# Altium footprint library Gator_Stream.PcbLib: 9 footprints
Each footprint in its own frame and in the unit in brackets; x right, y up, seen from the top. Pads: shape width x height; smd on the part's side, far side on the other; paste and mask are expansions set on the pad; w line width, h text height; cw(c..) or ccw(c..) is an arc to the next point about the centre after c.
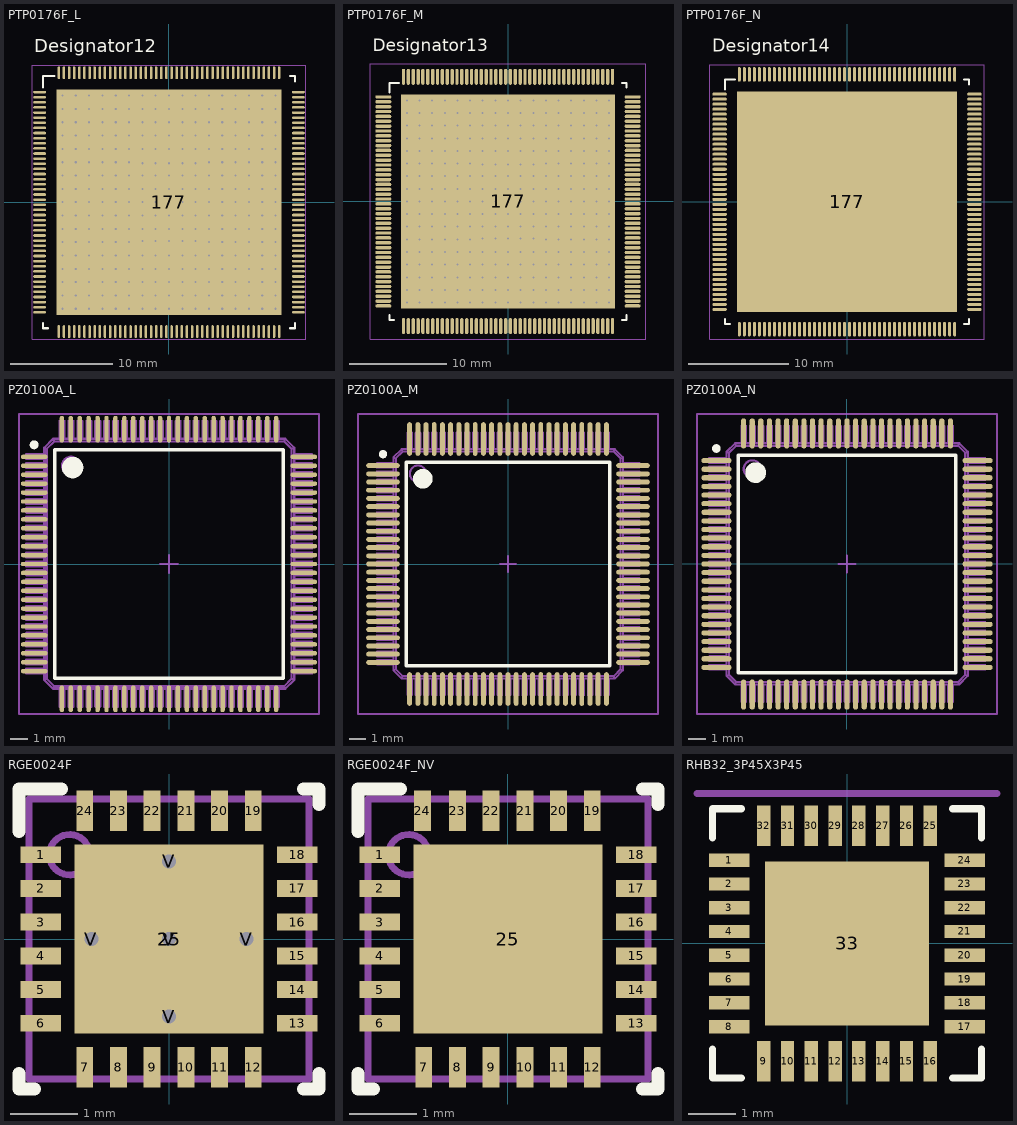
[diagram p0: the footprints below, top view; thin cyan lines are the x and y axes]

## PTP0176F_L [mm]
pads (466):
  oval 1.25x0.25 smd paste+0 mask+0.051: 1(-12.625,10.75) 2(-12.625,10.25) 3(-12.625,9.75) 4(-12.625,9.25) 5(-12.625,8.75) 6(-12.625,8.25) 7(-12.625,7.75) 8(-12.625,7.25) 9(-12.625,6.75) 10(-12.625,6.25) 11(-12.625,5.75) 12(-12.625,5.25) 13(-12.625,4.75) 14(-12.625,4.25) 15(-12.625,3.75) 16(-12.625,3.25) 17(-12.625,2.75) 18(-12.625,2.25) 19(-12.625,1.75) 20(-12.625,1.25) 21(-12.625,0.75) 22(-12.625,0.25) 23(-12.625,-0.25) 24(-12.625,-0.75) 25(-12.625,-1.25) 26(-12.625,-1.75) 27(-12.625,-2.25) 28(-12.625,-2.75) 29(-12.625,-3.25) 30(-12.625,-3.75) 31(-12.625,-4.25) 32(-12.625,-4.75) 33(-12.625,-5.25) 34(-12.625,-5.75) 35(-12.625,-6.25) 36(-12.625,-6.75) 37(-12.625,-7.25) 38(-12.625,-7.75) 39(-12.625,-8.25) 40(-12.625,-8.75) 41(-12.625,-9.25) 42(-12.625,-9.75) 43(-12.625,-10.25) 44(-12.625,-10.75) 89(12.625,-10.75) 90(12.625,-10.25) 91(12.625,-9.75) 92(12.625,-9.25) 93(12.625,-8.75) 94(12.625,-8.25) 95(12.625,-7.75) 96(12.625,-7.25) 97(12.625,-6.75) 98(12.625,-6.25) 99(12.625,-5.75) 100(12.625,-5.25) 101(12.625,-4.75) 102(12.625,-4.25) 103(12.625,-3.75) 104(12.625,-3.25) 105(12.625,-2.75) 106(12.625,-2.25) 107(12.625,-1.75) 108(12.625,-1.25) 109(12.625,-0.75) 110(12.625,-0.25) 111(12.625,0.25) 112(12.625,0.75) 113(12.625,1.25) 114(12.625,1.75) 115(12.625,2.25) 116(12.625,2.75) 117(12.625,3.25) 118(12.625,3.75) 119(12.625,4.25) 120(12.625,4.75) 121(12.625,5.25) 122(12.625,5.75) 123(12.625,6.25) 124(12.625,6.75) 125(12.625,7.25) 126(12.625,7.75) 127(12.625,8.25) 128(12.625,8.75) 129(12.625,9.25) 130(12.625,9.75) 131(12.625,10.25) 132(12.625,10.75)
  oval 0.25x1.25 smd paste+0 mask+0.051: 45(-10.75,-12.625) 46(-10.25,-12.625) 47(-9.75,-12.625) 48(-9.25,-12.625) 49(-8.75,-12.625) 50(-8.25,-12.625) 51(-7.75,-12.625) 52(-7.25,-12.625) 53(-6.75,-12.625) 54(-6.25,-12.625) 55(-5.75,-12.625) 56(-5.25,-12.625) 57(-4.75,-12.625) 58(-4.25,-12.625) 59(-3.75,-12.625) 60(-3.25,-12.625) 61(-2.75,-12.625) 62(-2.25,-12.625) 63(-1.75,-12.625) 64(-1.25,-12.625) 65(-0.75,-12.625) 66(-0.25,-12.625) 67(0.25,-12.625) 68(0.75,-12.625) 69(1.25,-12.625) 70(1.75,-12.625) 71(2.25,-12.625) 72(2.75,-12.625) 73(3.25,-12.625) 74(3.75,-12.625) 75(4.25,-12.625) 76(4.75,-12.625) 77(5.25,-12.625) 78(5.75,-12.625) 79(6.25,-12.625) 80(6.75,-12.625) 81(7.25,-12.625) 82(7.75,-12.625) 83(8.25,-12.625) 84(8.75,-12.625) 85(9.25,-12.625) 86(9.75,-12.625) 87(10.25,-12.625) 88(10.75,-12.625) 133(10.75,12.625) 134(10.25,12.625) 135(9.75,12.625) 136(9.25,12.625) 137(8.75,12.625) 138(8.25,12.625) 139(7.75,12.625) 140(7.25,12.625) 141(6.75,12.625) 142(6.25,12.625) 143(5.75,12.625) 144(5.25,12.625) 145(4.75,12.625) 146(4.25,12.625) 147(3.75,12.625) 148(3.25,12.625) 149(2.75,12.625) 150(2.25,12.625) 151(1.75,12.625) 152(1.25,12.625) 153(0.75,12.625) 154(0.25,12.625) 155(-0.25,12.625) 156(-0.75,12.625) 157(-1.25,12.625) 158(-1.75,12.625) 159(-2.25,12.625) 160(-2.75,12.625) 161(-3.25,12.625) 162(-3.75,12.625) 163(-4.25,12.625) 164(-4.75,12.625) 165(-5.25,12.625) 166(-5.75,12.625) 167(-6.25,12.625) 168(-6.75,12.625) 169(-7.25,12.625) 170(-7.75,12.625) 171(-8.25,12.625) 172(-8.75,12.625) 173(-9.25,12.625) 174(-9.75,12.625) 175(-10.25,12.625) 176(-10.75,12.625)
  rect 22x22 smd paste-10.987 mask+0.051: 177(0,0)
  round 0.5 / inner round 1.524 / far side round 0.5 hole 0.203 mask+0.051: V(-10.4,-10.4) V(-10.4,-9.1) V(-10.4,-7.8) V(-10.4,-6.5) V(-10.4,-5.2) V(-10.4,-3.9) V(-10.4,-2.6) V(-10.4,-1.3) V(-10.4,0) V(-10.4,1.3) V(-10.4,2.6) V(-10.4,3.9) V(-10.4,5.2) V(-10.4,6.5) V(-10.4,7.8) V(-10.4,9.1) V(-10.4,10.4) V(-9.1,-10.4) V(-9.1,-9.1) V(-9.1,-7.8) V(-9.1,-6.5) V(-9.1,-5.2) V(-9.1,-3.9) V(-9.1,-2.6) V(-9.1,-1.3) V(-9.1,0) V(-9.1,1.3) V(-9.1,2.6) V(-9.1,3.9) V(-9.1,5.2) V(-9.1,6.5) V(-9.1,7.8) V(-9.1,9.1) V(-9.1,10.4) V(-7.8,-10.4) V(-7.8,-9.1) V(-7.8,-7.8) V(-7.8,-6.5) V(-7.8,-5.2) V(-7.8,-3.9) V(-7.8,-2.6) V(-7.8,-1.3) V(-7.8,0) V(-7.8,1.3) V(-7.8,2.6) V(-7.8,3.9) V(-7.8,5.2) V(-7.8,6.5) V(-7.8,7.8) V(-7.8,9.1) V(-7.8,10.4) V(-6.5,-10.4) V(-6.5,-9.1) V(-6.5,-7.8) V(-6.5,-6.5) V(-6.5,-5.2) V(-6.5,-3.9) V(-6.5,-2.6) V(-6.5,-1.3) V(-6.5,0) V(-6.5,1.3) V(-6.5,2.6) V(-6.5,3.9) V(-6.5,5.2) V(-6.5,6.5) V(-6.5,7.8) V(-6.5,9.1) V(-6.5,10.4) V(-5.2,-10.4) V(-5.2,-9.1) V(-5.2,-7.8) V(-5.2,-6.5) V(-5.2,-5.2) V(-5.2,-3.9) V(-5.2,-2.6) V(-5.2,-1.3) V(-5.2,0) V(-5.2,1.3) V(-5.2,2.6) V(-5.2,3.9) V(-5.2,5.2) V(-5.2,6.5) V(-5.2,7.8) V(-5.2,9.1) V(-5.2,10.4) V(-3.9,-10.4) V(-3.9,-9.1) V(-3.9,-7.8) V(-3.9,-6.5) V(-3.9,-5.2) V(-3.9,-3.9) V(-3.9,-2.6) V(-3.9,-1.3) V(-3.9,0) V(-3.9,1.3) V(-3.9,2.6) V(-3.9,3.9) V(-3.9,5.2) V(-3.9,6.5) V(-3.9,7.8) V(-3.9,9.1) V(-3.9,10.4) V(-2.6,-10.4) V(-2.6,-9.1) V(-2.6,-7.8) V(-2.6,-6.5) V(-2.6,-5.2) V(-2.6,-3.8) V(-2.6,-2.6) V(-2.6,-1.3) V(-2.6,0) V(-2.6,1.3) V(-2.6,2.6) V(-2.6,3.8) V(-2.6,5.2) V(-2.6,6.5) V(-2.6,7.8) V(-2.6,9.1) V(-2.6,10.4) V(-1.3,-10.4) V(-1.3,-9.1) V(-1.3,-7.8) V(-1.3,-6.5) V(-1.3,-5.2) V(-1.3,-3.8) V(-1.3,-2.6) V(-1.3,-1.3) V(-1.3,0) V(-1.3,1.3) V(-1.3,2.6) V(-1.3,3.8) V(-1.3,5.2) V(-1.3,6.5) V(-1.3,7.8) V(-1.3,9.1) V(-1.3,10.4) V(0,-10.4) V(0,-9.1) V(0,-7.8) V(0,-6.5) V(0,-5.2) V(0,-3.8) V(0,-2.6) V(0,-1.3) V(0,0) V(0,1.3) V(0,2.6) V(0,3.8) V(0,5.2) V(0,6.5) V(0,7.8) V(0,9.1) V(0,10.4) V(1.3,-10.4) V(1.3,-9.1) V(1.3,-7.8) V(1.3,-6.5) V(1.3,-5.2) V(1.3,-3.8) V(1.3,-2.6) V(1.3,-1.3) V(1.3,0) V(1.3,1.3) V(1.3,2.6) V(1.3,3.8) V(1.3,5.2) V(1.3,6.5) V(1.3,7.8) V(1.3,9.1) V(1.3,10.4) V(2.6,-10.4) V(2.6,-9.1) V(2.6,-7.8) V(2.6,-6.5) V(2.6,-5.2) V(2.6,-3.8) V(2.6,-2.6) V(2.6,-1.3) V(2.6,0) V(2.6,1.3) V(2.6,2.6) V(2.6,3.8) V(2.6,5.2) V(2.6,6.5) V(2.6,7.8) V(2.6,9.1) V(2.6,10.4) V(3.9,-10.4) V(3.9,-9.1) V(3.9,-7.8) V(3.9,-6.5) V(3.9,-5.2) V(3.9,-3.9) V(3.9,-2.6) V(3.9,-1.3) V(3.9,0) V(3.9,1.3) V(3.9,2.6) V(3.9,3.9) V(3.9,5.2) V(3.9,6.5) V(3.9,7.8) V(3.9,9.1) V(3.9,10.4) V(5.2,-10.4) V(5.2,-9.1) V(5.2,-7.8) V(5.2,-6.5) V(5.2,-5.2) V(5.2,-3.9) V(5.2,-2.6) V(5.2,-1.3) V(5.2,0) V(5.2,1.3) V(5.2,2.6) V(5.2,3.9) V(5.2,5.2) V(5.2,6.5) V(5.2,7.8) V(5.2,9.1) V(5.2,10.4) V(6.5,-10.4) V(6.5,-9.1) V(6.5,-7.8) V(6.5,-6.5) V(6.5,-5.2) V(6.5,-3.9) V(6.5,-2.6) V(6.5,-1.3) V(6.5,0) V(6.5,1.3) V(6.5,2.6) V(6.5,3.9) V(6.5,5.2) V(6.5,6.5) V(6.5,7.8) V(6.5,9.1) V(6.5,10.4) V(7.8,-10.4) V(7.8,-9.1) V(7.8,-7.8) V(7.8,-6.5) V(7.8,-5.2) V(7.8,-3.9) V(7.8,-2.6) V(7.8,-1.3) V(7.8,0) V(7.8,1.3) V(7.8,2.6) V(7.8,3.9) V(7.8,5.2) V(7.8,6.5) V(7.8,7.8) V(7.8,9.1) V(7.8,10.4) V(9.1,-10.4) V(9.1,-9.1) V(9.1,-7.8) V(9.1,-6.5) V(9.1,-5.2) V(9.1,-3.9) V(9.1,-2.6) V(9.1,-1.3) V(9.1,0) V(9.1,1.3) V(9.1,2.6) V(9.1,3.9) V(9.1,5.2) V(9.1,6.5) V(9.1,7.8) V(9.1,9.1) V(9.1,10.4) V(10.4,-10.4) V(10.4,-9.1) V(10.4,-7.8) V(10.4,-6.5) V(10.4,-5.2) V(10.4,-3.9) V(10.4,-2.6) V(10.4,-1.3) V(10.4,0) V(10.4,1.3) V(10.4,2.6) V(10.4,3.9) V(10.4,5.2) V(10.4,6.5) V(10.4,7.8) V(10.4,9.1) V(10.4,10.4)
Top Overlay:
  lines w0.2: -12.3,-11.8 -12.3,-12.3 -11.8,-12.3 ; -12.3,11.2 -12.3,12.3 -11.2,12.3 ; 11.8,-12.3 12.3,-12.3 12.3,-11.8 ; 11.8,12.3 12.3,12.3 12.3,11.8
  text "Designator12" at -13.132,14.656 h1.27
Top Paste:
  region: -3.65,4.035 -3.65,-4.035 3.655,-4.035 3.655,4.035
Mechanical 13:
  text ".Designator" at -2.1,-0.5 h1.27
Mechanical 15:
  lines w0.05: -13.35,-13.35 13.35,-13.35 13.35,13.35 -13.35,13.35 -13.35,-13.35
  lines w0.1: -0.5,0 0.5,0 ; 0,-0.5 0,0.5
3D body: height 0.25, standoff 0, extent 0,0 0.254,0.254

## PTP0176F_M [mm]
pads (466):
  oval 1.65x0.35 smd paste+0 mask+0.051: 1(-12.825,10.75) 2(-12.825,10.25) 3(-12.825,9.75) 4(-12.825,9.25) 5(-12.825,8.75) 6(-12.825,8.25) 7(-12.825,7.75) 8(-12.825,7.25) 9(-12.825,6.75) 10(-12.825,6.25) 11(-12.825,5.75) 12(-12.825,5.25) 13(-12.825,4.75) 14(-12.825,4.25) 15(-12.825,3.75) 16(-12.825,3.25) 17(-12.825,2.75) 18(-12.825,2.25) 19(-12.825,1.75) 20(-12.825,1.25) 21(-12.825,0.75) 22(-12.825,0.25) 23(-12.825,-0.25) 24(-12.825,-0.75) 25(-12.825,-1.25) 26(-12.825,-1.75) 27(-12.825,-2.25) 28(-12.825,-2.75) 29(-12.825,-3.25) 30(-12.825,-3.75) 31(-12.825,-4.25) 32(-12.825,-4.75) 33(-12.825,-5.25) 34(-12.825,-5.75) 35(-12.825,-6.25) 36(-12.825,-6.75) 37(-12.825,-7.25) 38(-12.825,-7.75) 39(-12.825,-8.25) 40(-12.825,-8.75) 41(-12.825,-9.25) 42(-12.825,-9.75) 43(-12.825,-10.25) 44(-12.825,-10.75) 89(12.825,-10.75) 90(12.825,-10.25) 91(12.825,-9.75) 92(12.825,-9.25) 93(12.825,-8.75) 94(12.825,-8.25) 95(12.825,-7.75) 96(12.825,-7.25) 97(12.825,-6.75) 98(12.825,-6.25) 99(12.825,-5.75) 100(12.825,-5.25) 101(12.825,-4.75) 102(12.825,-4.25) 103(12.825,-3.75) 104(12.825,-3.25) 105(12.825,-2.75) 106(12.825,-2.25) 107(12.825,-1.75) 108(12.825,-1.25) 109(12.825,-0.75) 110(12.825,-0.25) 111(12.825,0.25) 112(12.825,0.75) 113(12.825,1.25) 114(12.825,1.75) 115(12.825,2.25) 116(12.825,2.75) 117(12.825,3.25) 118(12.825,3.75) 119(12.825,4.25) 120(12.825,4.75) 121(12.825,5.25) 122(12.825,5.75) 123(12.825,6.25) 124(12.825,6.75) 125(12.825,7.25) 126(12.825,7.75) 127(12.825,8.25) 128(12.825,8.75) 129(12.825,9.25) 130(12.825,9.75) 131(12.825,10.25) 132(12.825,10.75)
  oval 0.35x1.65 smd paste+0 mask+0.051: 45(-10.75,-12.825) 46(-10.25,-12.825) 47(-9.75,-12.825) 48(-9.25,-12.825) 49(-8.75,-12.825) 50(-8.25,-12.825) 51(-7.75,-12.825) 52(-7.25,-12.825) 53(-6.75,-12.825) 54(-6.25,-12.825) 55(-5.75,-12.825) 56(-5.25,-12.825) 57(-4.75,-12.825) 58(-4.25,-12.825) 59(-3.75,-12.825) 60(-3.25,-12.825) 61(-2.75,-12.825) 62(-2.25,-12.825) 63(-1.75,-12.825) 64(-1.25,-12.825) 65(-0.75,-12.825) 66(-0.25,-12.825) 67(0.25,-12.825) 68(0.75,-12.825) 69(1.25,-12.825) 70(1.75,-12.825) 71(2.25,-12.825) 72(2.75,-12.825) 73(3.25,-12.825) 74(3.75,-12.825) 75(4.25,-12.825) 76(4.75,-12.825) 77(5.25,-12.825) 78(5.75,-12.825) 79(6.25,-12.825) 80(6.75,-12.825) 81(7.25,-12.825) 82(7.75,-12.825) 83(8.25,-12.825) 84(8.75,-12.825) 85(9.25,-12.825) 86(9.75,-12.825) 87(10.25,-12.825) 88(10.75,-12.825) 133(10.75,12.825) 134(10.25,12.825) 135(9.75,12.825) 136(9.25,12.825) 137(8.75,12.825) 138(8.25,12.825) 139(7.75,12.825) 140(7.25,12.825) 141(6.75,12.825) 142(6.25,12.825) 143(5.75,12.825) 144(5.25,12.825) 145(4.75,12.825) 146(4.25,12.825) 147(3.75,12.825) 148(3.25,12.825) 149(2.75,12.825) 150(2.25,12.825) 151(1.75,12.825) 152(1.25,12.825) 153(0.75,12.825) 154(0.25,12.825) 155(-0.25,12.825) 156(-0.75,12.825) 157(-1.25,12.825) 158(-1.75,12.825) 159(-2.25,12.825) 160(-2.75,12.825) 161(-3.25,12.825) 162(-3.75,12.825) 163(-4.25,12.825) 164(-4.75,12.825) 165(-5.25,12.825) 166(-5.75,12.825) 167(-6.25,12.825) 168(-6.75,12.825) 169(-7.25,12.825) 170(-7.75,12.825) 171(-8.25,12.825) 172(-8.75,12.825) 173(-9.25,12.825) 174(-9.75,12.825) 175(-10.25,12.825) 176(-10.75,12.825)
  rect 22x22 smd paste-10.987 mask+0.051: 177(0,0)
  round 0.5 / inner round 1.524 / far side round 0.5 hole 0.203 mask+0.051: V(-10.4,-10.4) V(-10.4,-9.1) V(-10.4,-7.8) V(-10.4,-6.5) V(-10.4,-5.2) V(-10.4,-3.9) V(-10.4,-2.6) V(-10.4,-1.3) V(-10.4,0) V(-10.4,1.3) V(-10.4,2.6) V(-10.4,3.9) V(-10.4,5.2) V(-10.4,6.5) V(-10.4,7.8) V(-10.4,9.1) V(-10.4,10.4) V(-9.1,-10.4) V(-9.1,-9.1) V(-9.1,-7.8) V(-9.1,-6.5) V(-9.1,-5.2) V(-9.1,-3.9) V(-9.1,-2.6) V(-9.1,-1.3) V(-9.1,0) V(-9.1,1.3) V(-9.1,2.6) V(-9.1,3.9) V(-9.1,5.2) V(-9.1,6.5) V(-9.1,7.8) V(-9.1,9.1) V(-9.1,10.4) V(-7.8,-10.4) V(-7.8,-9.1) V(-7.8,-7.8) V(-7.8,-6.5) V(-7.8,-5.2) V(-7.8,-3.9) V(-7.8,-2.6) V(-7.8,-1.3) V(-7.8,0) V(-7.8,1.3) V(-7.8,2.6) V(-7.8,3.9) V(-7.8,5.2) V(-7.8,6.5) V(-7.8,7.8) V(-7.8,9.1) V(-7.8,10.4) V(-6.5,-10.4) V(-6.5,-9.1) V(-6.5,-7.8) V(-6.5,-6.5) V(-6.5,-5.2) V(-6.5,-3.9) V(-6.5,-2.6) V(-6.5,-1.3) V(-6.5,0) V(-6.5,1.3) V(-6.5,2.6) V(-6.5,3.9) V(-6.5,5.2) V(-6.5,6.5) V(-6.5,7.8) V(-6.5,9.1) V(-6.5,10.4) V(-5.2,-10.4) V(-5.2,-9.1) V(-5.2,-7.8) V(-5.2,-6.5) V(-5.2,-5.2) V(-5.2,-3.9) V(-5.2,-2.6) V(-5.2,-1.3) V(-5.2,0) V(-5.2,1.3) V(-5.2,2.6) V(-5.2,3.9) V(-5.2,5.2) V(-5.2,6.5) V(-5.2,7.8) V(-5.2,9.1) V(-5.2,10.4) V(-3.9,-10.4) V(-3.9,-9.1) V(-3.9,-7.8) V(-3.9,-6.5) V(-3.9,-5.2) V(-3.9,-3.9) V(-3.9,-2.6) V(-3.9,-1.3) V(-3.9,0) V(-3.9,1.3) V(-3.9,2.6) V(-3.9,3.9) V(-3.9,5.2) V(-3.9,6.5) V(-3.9,7.8) V(-3.9,9.1) V(-3.9,10.4) V(-2.6,-10.4) V(-2.6,-9.1) V(-2.6,-7.8) V(-2.6,-6.5) V(-2.6,-5.2) V(-2.6,-3.8) V(-2.6,-2.6) V(-2.6,-1.3) V(-2.6,0) V(-2.6,1.3) V(-2.6,2.6) V(-2.6,3.8) V(-2.6,5.2) V(-2.6,6.5) V(-2.6,7.8) V(-2.6,9.1) V(-2.6,10.4) V(-1.3,-10.4) V(-1.3,-9.1) V(-1.3,-7.8) V(-1.3,-6.5) V(-1.3,-5.2) V(-1.3,-3.8) V(-1.3,-2.6) V(-1.3,-1.3) V(-1.3,0) V(-1.3,1.3) V(-1.3,2.6) V(-1.3,3.8) V(-1.3,5.2) V(-1.3,6.5) V(-1.3,7.8) V(-1.3,9.1) V(-1.3,10.4) V(0,-10.4) V(0,-9.1) V(0,-7.8) V(0,-6.5) V(0,-5.2) V(0,-3.8) V(0,-2.6) V(0,-1.3) V(0,0) V(0,1.3) V(0,2.6) V(0,3.8) V(0,5.2) V(0,6.5) V(0,7.8) V(0,9.1) V(0,10.4) V(1.3,-10.4) V(1.3,-9.1) V(1.3,-7.8) V(1.3,-6.5) V(1.3,-5.2) V(1.3,-3.8) V(1.3,-2.6) V(1.3,-1.3) V(1.3,0) V(1.3,1.3) V(1.3,2.6) V(1.3,3.8) V(1.3,5.2) V(1.3,6.5) V(1.3,7.8) V(1.3,9.1) V(1.3,10.4) V(2.6,-10.4) V(2.6,-9.1) V(2.6,-7.8) V(2.6,-6.5) V(2.6,-5.2) V(2.6,-3.8) V(2.6,-2.6) V(2.6,-1.3) V(2.6,0) V(2.6,1.3) V(2.6,2.6) V(2.6,3.8) V(2.6,5.2) V(2.6,6.5) V(2.6,7.8) V(2.6,9.1) V(2.6,10.4) V(3.9,-10.4) V(3.9,-9.1) V(3.9,-7.8) V(3.9,-6.5) V(3.9,-5.2) V(3.9,-3.9) V(3.9,-2.6) V(3.9,-1.3) V(3.9,0) V(3.9,1.3) V(3.9,2.6) V(3.9,3.9) V(3.9,5.2) V(3.9,6.5) V(3.9,7.8) V(3.9,9.1) V(3.9,10.4) V(5.2,-10.4) V(5.2,-9.1) V(5.2,-7.8) V(5.2,-6.5) V(5.2,-5.2) V(5.2,-3.9) V(5.2,-2.6) V(5.2,-1.3) V(5.2,0) V(5.2,1.3) V(5.2,2.6) V(5.2,3.9) V(5.2,5.2) V(5.2,6.5) V(5.2,7.8) V(5.2,9.1) V(5.2,10.4) V(6.5,-10.4) V(6.5,-9.1) V(6.5,-7.8) V(6.5,-6.5) V(6.5,-5.2) V(6.5,-3.9) V(6.5,-2.6) V(6.5,-1.3) V(6.5,0) V(6.5,1.3) V(6.5,2.6) V(6.5,3.9) V(6.5,5.2) V(6.5,6.5) V(6.5,7.8) V(6.5,9.1) V(6.5,10.4) V(7.8,-10.4) V(7.8,-9.1) V(7.8,-7.8) V(7.8,-6.5) V(7.8,-5.2) V(7.8,-3.9) V(7.8,-2.6) V(7.8,-1.3) V(7.8,0) V(7.8,1.3) V(7.8,2.6) V(7.8,3.9) V(7.8,5.2) V(7.8,6.5) V(7.8,7.8) V(7.8,9.1) V(7.8,10.4) V(9.1,-10.4) V(9.1,-9.1) V(9.1,-7.8) V(9.1,-6.5) V(9.1,-5.2) V(9.1,-3.9) V(9.1,-2.6) V(9.1,-1.3) V(9.1,0) V(9.1,1.3) V(9.1,2.6) V(9.1,3.9) V(9.1,5.2) V(9.1,6.5) V(9.1,7.8) V(9.1,9.1) V(9.1,10.4) V(10.4,-10.4) V(10.4,-9.1) V(10.4,-7.8) V(10.4,-6.5) V(10.4,-5.2) V(10.4,-3.9) V(10.4,-2.6) V(10.4,-1.3) V(10.4,0) V(10.4,1.3) V(10.4,2.6) V(10.4,3.9) V(10.4,5.2) V(10.4,6.5) V(10.4,7.8) V(10.4,9.1) V(10.4,10.4)
Top Overlay:
  lines w0.2: -12.2,-11.7 -12.2,-12.2 -11.7,-12.2 ; -12.2,11.2 -12.2,12.2 -11.2,12.2 ; 11.7,-12.2 12.2,-12.2 12.2,-11.7 ; 11.7,12.2 12.2,12.2 12.2,11.7
  text "Designator13" at -13.919,15.443 h1.27
Top Paste:
  region: -3.65,4.035 -3.65,-4.035 3.655,-4.035 3.655,4.035
Mechanical 13:
  text ".Designator" at -1.6,-0.4 h1.27
Mechanical 15:
  lines w0.05: -14.15,-14.15 -14.15,14.15 14.15,14.15 14.15,-14.15 -14.15,-14.15
  lines w0.1: -0.5,0 0.5,0 ; 0,-0.5 0,0.5
3D body: height 0.25, standoff 0, extent 0,0 0.254,0.254

## PTP0176F_N [mm]
pads (177):
  oval 1.45x0.3 smd paste+0 mask+0.051: 1(-12.725,10.75) 2(-12.725,10.25) 3(-12.725,9.75) 4(-12.725,9.25) 5(-12.725,8.75) 6(-12.725,8.25) 7(-12.725,7.75) 8(-12.725,7.25) 9(-12.725,6.75) 10(-12.725,6.25) 11(-12.725,5.75) 12(-12.725,5.25) 13(-12.725,4.75) 14(-12.725,4.25) 15(-12.725,3.75) 16(-12.725,3.25) 17(-12.725,2.75) 18(-12.725,2.25) 19(-12.725,1.75) 20(-12.725,1.25) 21(-12.725,0.75) 22(-12.725,0.25) 23(-12.725,-0.25) 24(-12.725,-0.75) 25(-12.725,-1.25) 26(-12.725,-1.75) 27(-12.725,-2.25) 28(-12.725,-2.75) 29(-12.725,-3.25) 30(-12.725,-3.75) 31(-12.725,-4.25) 32(-12.725,-4.75) 33(-12.725,-5.25) 34(-12.725,-5.75) 35(-12.725,-6.25) 36(-12.725,-6.75) 37(-12.725,-7.25) 38(-12.725,-7.75) 39(-12.725,-8.25) 40(-12.725,-8.75) 41(-12.725,-9.25) 42(-12.725,-9.75) 43(-12.725,-10.25) 44(-12.725,-10.75) 89(12.725,-10.75) 90(12.725,-10.25) 91(12.725,-9.75) 92(12.725,-9.25) 93(12.725,-8.75) 94(12.725,-8.25) 95(12.725,-7.75) 96(12.725,-7.25) 97(12.725,-6.75) 98(12.725,-6.25) 99(12.725,-5.75) 100(12.725,-5.25) 101(12.725,-4.75) 102(12.725,-4.25) 103(12.725,-3.75) 104(12.725,-3.25) 105(12.725,-2.75) 106(12.725,-2.25) 107(12.725,-1.75) 108(12.725,-1.25) 109(12.725,-0.75) 110(12.725,-0.25) 111(12.725,0.25) 112(12.725,0.75) 113(12.725,1.25) 114(12.725,1.75) 115(12.725,2.25) 116(12.725,2.75) 117(12.725,3.25) 118(12.725,3.75) 119(12.725,4.25) 120(12.725,4.75) 121(12.725,5.25) 122(12.725,5.75) 123(12.725,6.25) 124(12.725,6.75) 125(12.725,7.25) 126(12.725,7.75) 127(12.725,8.25) 128(12.725,8.75) 129(12.725,9.25) 130(12.725,9.75) 131(12.725,10.25) 132(12.725,10.75)
  oval 0.3x1.45 smd paste+0 mask+0.051: 45(-10.75,-12.725) 46(-10.25,-12.725) 47(-9.75,-12.725) 48(-9.25,-12.725) 49(-8.75,-12.725) 50(-8.25,-12.725) 51(-7.75,-12.725) 52(-7.25,-12.725) 53(-6.75,-12.725) 54(-6.25,-12.725) 55(-5.75,-12.725) 56(-5.25,-12.725) 57(-4.75,-12.725) 58(-4.25,-12.725) 59(-3.75,-12.725) 60(-3.25,-12.725) 61(-2.75,-12.725) 62(-2.25,-12.725) 63(-1.75,-12.725) 64(-1.25,-12.725) 65(-0.75,-12.725) 66(-0.25,-12.725) 67(0.25,-12.725) 68(0.75,-12.725) 69(1.25,-12.725) 70(1.75,-12.725) 71(2.25,-12.725) 72(2.75,-12.725) 73(3.25,-12.725) 74(3.75,-12.725) 75(4.25,-12.725) 76(4.75,-12.725) 77(5.25,-12.725) 78(5.75,-12.725) 79(6.25,-12.725) 80(6.75,-12.725) 81(7.25,-12.725) 82(7.75,-12.725) 83(8.25,-12.725) 84(8.75,-12.725) 85(9.25,-12.725) 86(9.75,-12.725) 87(10.25,-12.725) 88(10.75,-12.725) 133(10.75,12.725) 134(10.25,12.725) 135(9.75,12.725) 136(9.25,12.725) 137(8.75,12.725) 138(8.25,12.725) 139(7.75,12.725) 140(7.25,12.725) 141(6.75,12.725) 142(6.25,12.725) 143(5.75,12.725) 144(5.25,12.725) 145(4.75,12.725) 146(4.25,12.725) 147(3.75,12.725) 148(3.25,12.725) 149(2.75,12.725) 150(2.25,12.725) 151(1.75,12.725) 152(1.25,12.725) 153(0.75,12.725) 154(0.25,12.725) 155(-0.25,12.725) 156(-0.75,12.725) 157(-1.25,12.725) 158(-1.75,12.725) 159(-2.25,12.725) 160(-2.75,12.725) 161(-3.25,12.725) 162(-3.75,12.725) 163(-4.25,12.725) 164(-4.75,12.725) 165(-5.25,12.725) 166(-5.75,12.725) 167(-6.25,12.725) 168(-6.75,12.725) 169(-7.25,12.725) 170(-7.75,12.725) 171(-8.25,12.725) 172(-8.75,12.725) 173(-9.25,12.725) 174(-9.75,12.725) 175(-10.25,12.725) 176(-10.75,12.725)
  rect 22x22 smd paste-10.987 mask+0.051: 177(0,0)
Top Overlay:
  lines w0.2: -12.2,-11.7 -12.2,-12.2 -11.7,-12.2 ; -12.2,11.2 -12.2,12.2 -11.2,12.2 ; 11.7,-12.2 12.2,-12.2 12.2,-11.7 ; 11.7,12.2 12.2,12.2 12.2,11.7
  text "Designator14" at -13.462,14.986 h1.27
Top Paste:
  region: -3.65,4.035 -3.65,-4.035 3.655,-4.035 3.655,4.035
Mechanical 13:
  text ".Designator" at -1.524,-0.508 h1.27
Mechanical 15:
  lines w0.05: -13.7,-13.7 -13.7,13.7 13.7,13.7 13.7,-13.7 -13.7,-13.7
  lines w0.1: -0.5,0 0.5,0 ; 0,-0.5 0,0.5
3D body: height 0.25, standoff 0, extent 0,0 0.254,0.254

## PZ0100A_L [mm]
pads (100):
  oval 1.5x0.25 smd paste+0 mask+0.051: 1(-7.55,6) 2(-7.55,5.5) 3(-7.55,5) 4(-7.55,4.5) 5(-7.55,4) 6(-7.55,3.5) 7(-7.55,3) 8(-7.55,2.5) 9(-7.55,2) 10(-7.55,1.5) 11(-7.55,1) 12(-7.55,0.5) 13(-7.55,0) 14(-7.55,-0.5) 15(-7.55,-1) 16(-7.55,-1.5) 17(-7.55,-2) 18(-7.55,-2.5) 19(-7.55,-3) 20(-7.55,-3.5) 21(-7.55,-4) 22(-7.55,-4.5) 23(-7.55,-5) 24(-7.55,-5.5) 25(-7.55,-6) 51(7.55,-6) 52(7.55,-5.5) 53(7.55,-5) 54(7.55,-4.5) 55(7.55,-4) 56(7.55,-3.5) 57(7.55,-3) 58(7.55,-2.5) 59(7.55,-2) 60(7.55,-1.5) 61(7.55,-1) 62(7.55,-0.5) 63(7.55,0) 64(7.55,0.5) 65(7.55,1) 66(7.55,1.5) 67(7.55,2) 68(7.55,2.5) 69(7.55,3) 70(7.55,3.5) 71(7.55,4) 72(7.55,4.5) 73(7.55,5) 74(7.55,5.5) 75(7.55,6)
  oval 0.25x1.5 smd paste+0 mask+0.051: 26(-6,-7.55) 27(-5.5,-7.55) 28(-5,-7.55) 29(-4.5,-7.55) 30(-4,-7.55) 31(-3.5,-7.55) 32(-3,-7.55) 33(-2.5,-7.55) 34(-2,-7.55) 35(-1.5,-7.55) 36(-1,-7.55) 37(-0.5,-7.55) 38(0,-7.55) 39(0.5,-7.55) 40(1,-7.55) 41(1.5,-7.55) 42(2,-7.55) 43(2.5,-7.55) 44(3,-7.55) 45(3.5,-7.55) 46(4,-7.55) 47(4.5,-7.55) 48(5,-7.55) 49(5.5,-7.55) 50(6,-7.55) 76(6,7.55) 77(5.5,7.55) 78(5,7.55) 79(4.5,7.55) 80(4,7.55) 81(3.5,7.55) 82(3,7.55) 83(2.5,7.55) 84(2,7.55) 85(1.5,7.55) 86(1,7.55) 87(0.5,7.55) 88(0,7.55) 89(-0.5,7.55) 90(-1,7.55) 91(-1.5,7.55) 92(-2,7.55) 93(-2.5,7.55) 94(-3,7.55) 95(-3.5,7.55) 96(-4,7.55) 97(-4.5,7.55) 98(-5,7.55) 99(-5.5,7.55) 100(-6,7.55)
Top Overlay:
  circle w0.25: c-7.55,6.675 r0.125
  circle w0.6: c-5.4,5.4 r0.3
  lines w0.2: -6.4,-6.4 -6.4,6.4 6.4,6.4 6.4,-6.4 -6.4,-6.4
Mechanical 13:
  drawing of 1326 lines, arcs and shapes, not listed
Mechanical 15:
  lines w0.1: -0.5,0 0.5,0 ; 0,-0.5 0,0.5 ; -8.4,-8.4 -8.4,8.4 8.4,8.4 8.4,-8.4 -8.4,-8.4
3D body: height 0.25, standoff 0, extent 0,0 0.254,0.254

## PZ0100A_M [mm]
pads (100):
  oval 2.05x0.3 smd paste+0 mask+0.051: 1(-7.625,6) 2(-7.625,5.5) 3(-7.625,5) 4(-7.625,4.5) 5(-7.625,4) 6(-7.625,3.5) 7(-7.625,3) 8(-7.625,2.5) 9(-7.625,2) 10(-7.625,1.5) 11(-7.625,1) 12(-7.625,0.5) 13(-7.625,0) 14(-7.625,-0.5) 15(-7.625,-1) 16(-7.625,-1.5) 17(-7.625,-2) 18(-7.625,-2.5) 19(-7.625,-3) 20(-7.625,-3.5) 21(-7.625,-4) 22(-7.625,-4.5) 23(-7.625,-5) 24(-7.625,-5.5) 25(-7.625,-6) 51(7.625,-6) 52(7.625,-5.5) 53(7.625,-5) 54(7.625,-4.5) 55(7.625,-4) 56(7.625,-3.5) 57(7.625,-3) 58(7.625,-2.5) 59(7.625,-2) 60(7.625,-1.5) 61(7.625,-1) 62(7.625,-0.5) 63(7.625,0) 64(7.625,0.5) 65(7.625,1) 66(7.625,1.5) 67(7.625,2) 68(7.625,2.5) 69(7.625,3) 70(7.625,3.5) 71(7.625,4) 72(7.625,4.5) 73(7.625,5) 74(7.625,5.5) 75(7.625,6)
  oval 0.3x2.05 smd paste+0 mask+0.051: 26(-6,-7.625) 27(-5.5,-7.625) 28(-5,-7.625) 29(-4.5,-7.625) 30(-4,-7.625) 31(-3.5,-7.625) 32(-3,-7.625) 33(-2.5,-7.625) 34(-2,-7.625) 35(-1.5,-7.625) 36(-1,-7.625) 37(-0.5,-7.625) 38(0,-7.625) 39(0.5,-7.625) 40(1,-7.625) 41(1.5,-7.625) 42(2,-7.625) 43(2.5,-7.625) 44(3,-7.625) 45(3.5,-7.625) 46(4,-7.625) 47(4.5,-7.625) 48(5,-7.625) 49(5.5,-7.625) 50(6,-7.625) 76(6,7.625) 77(5.5,7.625) 78(5,7.625) 79(4.5,7.625) 80(4,7.625) 81(3.5,7.625) 82(3,7.625) 83(2.5,7.625) 84(2,7.625) 85(1.5,7.625) 86(1,7.625) 87(0.5,7.625) 88(0,7.625) 89(-0.5,7.625) 90(-1,7.625) 91(-1.5,7.625) 92(-2,7.625) 93(-2.5,7.625) 94(-3,7.625) 95(-3.5,7.625) 96(-4,7.625) 97(-4.5,7.625) 98(-5,7.625) 99(-5.5,7.625) 100(-6,7.625)
Top Overlay:
  circle w0.25: c-7.625,6.7 r0.125
  circle w0.6: c-5.2,5.2 r0.3
  lines w0.2: -6.2,-6.2 -6.2,6.2 6.2,6.2 6.2,-6.2 -6.2,-6.2
Mechanical 13:
  drawing of 1326 lines, arcs and shapes, not listed
Mechanical 15:
  lines w0.1: -0.5,0 0.5,0 ; 0,-0.5 0,0.5 ; -9.15,-9.15 -9.15,9.15 9.15,9.15 9.15,-9.15 -9.15,-9.15
3D body: height 0.25, standoff 0, extent 0,0 0.254,0.254

## PZ0100A_N [mm]
pads (100):
  oval 1.75x0.3 smd paste+0 mask+0.051: 1(-7.575,6) 2(-7.575,5.5) 3(-7.575,5) 4(-7.575,4.5) 5(-7.575,4) 6(-7.575,3.5) 7(-7.575,3) 8(-7.575,2.5) 9(-7.575,2) 10(-7.575,1.5) 11(-7.575,1) 12(-7.575,0.5) 13(-7.575,0) 14(-7.575,-0.5) 15(-7.575,-1) 16(-7.575,-1.5) 17(-7.575,-2) 18(-7.575,-2.5) 19(-7.575,-3) 20(-7.575,-3.5) 21(-7.575,-4) 22(-7.575,-4.5) 23(-7.575,-5) 24(-7.575,-5.5) 25(-7.575,-6) 51(7.575,-6) 52(7.575,-5.5) 53(7.575,-5) 54(7.575,-4.5) 55(7.575,-4) 56(7.575,-3.5) 57(7.575,-3) 58(7.575,-2.5) 59(7.575,-2) 60(7.575,-1.5) 61(7.575,-1) 62(7.575,-0.5) 63(7.575,0) 64(7.575,0.5) 65(7.575,1) 66(7.575,1.5) 67(7.575,2) 68(7.575,2.5) 69(7.575,3) 70(7.575,3.5) 71(7.575,4) 72(7.575,4.5) 73(7.575,5) 74(7.575,5.5) 75(7.575,6)
  oval 0.3x1.75 smd paste+0 mask+0.051: 26(-6,-7.575) 27(-5.5,-7.575) 28(-5,-7.575) 29(-4.5,-7.575) 30(-4,-7.575) 31(-3.5,-7.575) 32(-3,-7.575) 33(-2.5,-7.575) 34(-2,-7.575) 35(-1.5,-7.575) 36(-1,-7.575) 37(-0.5,-7.575) 38(0,-7.575) 39(0.5,-7.575) 40(1,-7.575) 41(1.5,-7.575) 42(2,-7.575) 43(2.5,-7.575) 44(3,-7.575) 45(3.5,-7.575) 46(4,-7.575) 47(4.5,-7.575) 48(5,-7.575) 49(5.5,-7.575) 50(6,-7.575) 76(6,7.575) 77(5.5,7.575) 78(5,7.575) 79(4.5,7.575) 80(4,7.575) 81(3.5,7.575) 82(3,7.575) 83(2.5,7.575) 84(2,7.575) 85(1.5,7.575) 86(1,7.575) 87(0.5,7.575) 88(0,7.575) 89(-0.5,7.575) 90(-1,7.575) 91(-1.5,7.575) 92(-2,7.575) 93(-2.5,7.575) 94(-3,7.575) 95(-3.5,7.575) 96(-4,7.575) 97(-4.5,7.575) 98(-5,7.575) 99(-5.5,7.575) 100(-6,7.575)
Top Overlay:
  circle w0.6: c-5.3,5.3 r0.3
  circle w0.25: c-7.575,6.7 r0.125
  lines w0.2: -6.3,-6.3 6.3,-6.3 6.3,6.3 -6.3,6.3 -6.3,-6.3
Mechanical 13:
  drawing of 1326 lines, arcs and shapes, not listed
Mechanical 15:
  lines w0.1: -0.5,0 0.5,0 ; 0,-0.5 0,0.5 ; -8.7,-8.7 8.7,-8.7 8.7,8.7 -8.7,8.7 -8.7,-8.7
3D body: height 0.25, standoff 0, extent 0,0 0.254,0.254

## RGE0024F [mm]
pads (30):
  rect 0.6x0.25 smd paste+0 mask+0: 1(-1.9,1.25) 2(-1.9,0.75) 3(-1.9,0.25) 4(-1.9,-0.25) 5(-1.9,-0.75) 6(-1.9,-1.25) 13(1.9,-1.25) 14(1.9,-0.75) 15(1.9,-0.25) 16(1.9,0.25) 17(1.9,0.75) 18(1.9,1.25)
  rect 0.25x0.6 smd paste+0 mask+0: 7(-1.25,-1.9) 8(-0.75,-1.9) 9(-0.25,-1.9) 10(0.25,-1.9) 11(0.75,-1.9) 12(1.25,-1.9) 19(1.25,1.9) 20(0.75,1.9) 21(0.25,1.9) 22(-0.25,1.9) 23(-0.75,1.9) 24(-1.25,1.9)
  rect 2.8x2.8 smd paste-1.387 mask+0: 25(0,0)
  round 0.5 / inner round 1.524 / far side round 0.5 hole 0.203 mask+0: V(-1.15,0) V(0,-1.15) V(0,0) V(0,1.15) V(1.15,0)
Top Overlay:
  lines w0.2: -2.225,-2 -2.225,-2.225 -2,-2.225 ; -2.225,1.6 -2.225,2.225 -1.6,2.225 ; 2,-2.225 2.225,-2.225 2.225,-2 ; 2,2.225 2.225,2.225 2.225,2
Top Paste:
  region: 0.101,-1.29 0.1,-1.281 0.1,-0.149 0.101,-0.14 0.104,-0.13 0.108,-0.122 0.114,-0.114 0.122,-0.108 0.13,-0.104 0.14,-0.101 0.149,-0.1 1.281,-0.1 1.29,-0.101 1.3,-0.104 1.308,-0.108 1.316,-0.114 1.322,-0.122 1.326,-0.13 1.329,-0.14 1.33,-0.149 1.33,-1.281 1.329,-1.29 1.326,-1.3 1.322,-1.308 1.316,-1.316 1.308,-1.322 1.3,-1.326 1.29,-1.329 1.281,-1.33 0.149,-1.33 0.14,-1.329 0.13,-1.326 0.122,-1.322 0.114,-1.316 0.108,-1.308 0.104,-1.3
  region: -0.101,-0.14 -0.1,-0.149 -0.1,-1.281 -0.101,-1.29 -0.104,-1.3 -0.108,-1.308 -0.114,-1.316 -0.122,-1.322 -0.13,-1.326 -0.14,-1.329 -0.149,-1.33 -1.281,-1.33 -1.29,-1.329 -1.3,-1.326 -1.308,-1.322 -1.316,-1.316 -1.322,-1.308 -1.326,-1.3 -1.329,-1.29 -1.33,-1.281 -1.33,-0.149 -1.329,-0.14 -1.326,-0.13 -1.322,-0.122 -1.316,-0.114 -1.308,-0.108 -1.3,-0.104 -1.29,-0.101 -1.281,-0.1 -0.149,-0.1 -0.14,-0.101 -0.13,-0.104 -0.122,-0.108 -0.114,-0.114 -0.108,-0.122 -0.104,-0.13
  region: -0.101,1.29 -0.1,1.281 -0.1,0.149 -0.101,0.14 -0.104,0.13 -0.108,0.122 -0.114,0.114 -0.122,0.108 -0.13,0.104 -0.14,0.101 -0.149,0.1 -1.281,0.1 -1.29,0.101 -1.3,0.104 -1.308,0.108 -1.316,0.114 -1.322,0.122 -1.326,0.13 -1.329,0.14 -1.33,0.149 -1.33,1.281 -1.329,1.29 -1.326,1.3 -1.322,1.308 -1.316,1.316 -1.308,1.322 -1.3,1.326 -1.29,1.329 -1.281,1.33 -0.149,1.33 -0.14,1.329 -0.13,1.326 -0.122,1.322 -0.114,1.316 -0.108,1.308 -0.104,1.3
  region: 0.101,0.14 0.1,0.149 0.1,1.281 0.101,1.29 0.104,1.3 0.108,1.308 0.114,1.316 0.122,1.322 0.13,1.326 0.14,1.329 0.149,1.33 1.281,1.33 1.29,1.329 1.3,1.326 1.308,1.322 1.316,1.316 1.322,1.308 1.326,1.3 1.329,1.29 1.33,1.281 1.33,0.149 1.329,0.14 1.326,0.13 1.322,0.122 1.316,0.114 1.308,0.108 1.3,0.104 1.29,0.101 1.281,0.1 0.149,0.1 0.14,0.101 0.13,0.104 0.122,0.108 0.114,0.114 0.108,0.122 0.104,0.13
Mechanical 13:
  circle w0.1: c-1.475,1.25 r0.3
  lines w0.1: -2.075,-2.075 -2.075,2.075 2.075,2.075 2.075,-2.075 -2.075,-2.075
3D body: height 0.25, standoff 0, extent 0,0 0.254,0.254

## RGE0024F_NV [mm]
pads (25):
  rect 0.6x0.25 smd paste+0 mask+0: 1(-1.9,1.25) 2(-1.9,0.75) 3(-1.9,0.25) 4(-1.9,-0.25) 5(-1.9,-0.75) 6(-1.9,-1.25) 13(1.9,-1.25) 14(1.9,-0.75) 15(1.9,-0.25) 16(1.9,0.25) 17(1.9,0.75) 18(1.9,1.25)
  rect 0.25x0.6 smd paste+0 mask+0: 7(-1.25,-1.9) 8(-0.75,-1.9) 9(-0.25,-1.9) 10(0.25,-1.9) 11(0.75,-1.9) 12(1.25,-1.9) 19(1.25,1.9) 20(0.75,1.9) 21(0.25,1.9) 22(-0.25,1.9) 23(-0.75,1.9) 24(-1.27,1.905)
  rect 2.8x2.8 smd paste-1.387 mask+0: 25(0,0)
Top Overlay:
  lines w0.2: -2.225,-2 -2.225,-2.225 -2,-2.225 ; -2.225,1.6 -2.225,2.225 -1.6,2.225 ; 2,-2.225 2.225,-2.225 2.225,-2 ; 2,2.225 2.225,2.225 2.225,2
Top Paste:
  region: 0.101,-1.29 0.1,-1.281 0.1,-0.149 0.101,-0.14 0.104,-0.13 0.108,-0.122 0.114,-0.114 0.122,-0.108 0.13,-0.104 0.14,-0.101 0.149,-0.1 1.281,-0.1 1.29,-0.101 1.3,-0.104 1.308,-0.108 1.316,-0.114 1.322,-0.122 1.326,-0.13 1.329,-0.14 1.33,-0.149 1.33,-1.281 1.329,-1.29 1.326,-1.3 1.322,-1.308 1.316,-1.316 1.308,-1.322 1.3,-1.326 1.29,-1.329 1.281,-1.33 0.149,-1.33 0.14,-1.329 0.13,-1.326 0.122,-1.322 0.114,-1.316 0.108,-1.308 0.104,-1.3
  region: -0.101,-0.14 -0.1,-0.149 -0.1,-1.281 -0.101,-1.29 -0.104,-1.3 -0.108,-1.308 -0.114,-1.316 -0.122,-1.322 -0.13,-1.326 -0.14,-1.329 -0.149,-1.33 -1.281,-1.33 -1.29,-1.329 -1.3,-1.326 -1.308,-1.322 -1.316,-1.316 -1.322,-1.308 -1.326,-1.3 -1.329,-1.29 -1.33,-1.281 -1.33,-0.149 -1.329,-0.14 -1.326,-0.13 -1.322,-0.122 -1.316,-0.114 -1.308,-0.108 -1.3,-0.104 -1.29,-0.101 -1.281,-0.1 -0.149,-0.1 -0.14,-0.101 -0.13,-0.104 -0.122,-0.108 -0.114,-0.114 -0.108,-0.122 -0.104,-0.13
  region: -0.101,1.29 -0.1,1.281 -0.1,0.149 -0.101,0.14 -0.104,0.13 -0.108,0.122 -0.114,0.114 -0.122,0.108 -0.13,0.104 -0.14,0.101 -0.149,0.1 -1.281,0.1 -1.29,0.101 -1.3,0.104 -1.308,0.108 -1.316,0.114 -1.322,0.122 -1.326,0.13 -1.329,0.14 -1.33,0.149 -1.33,1.281 -1.329,1.29 -1.326,1.3 -1.322,1.308 -1.316,1.316 -1.308,1.322 -1.3,1.326 -1.29,1.329 -1.281,1.33 -0.149,1.33 -0.14,1.329 -0.13,1.326 -0.122,1.322 -0.114,1.316 -0.108,1.308 -0.104,1.3
  region: 0.101,0.14 0.1,0.149 0.1,1.281 0.101,1.29 0.104,1.3 0.108,1.308 0.114,1.316 0.122,1.322 0.13,1.326 0.14,1.329 0.149,1.33 1.281,1.33 1.29,1.329 1.3,1.326 1.308,1.322 1.316,1.316 1.322,1.308 1.326,1.3 1.329,1.29 1.33,1.281 1.33,0.149 1.329,0.14 1.326,0.13 1.322,0.122 1.316,0.114 1.308,0.108 1.3,0.104 1.29,0.101 1.281,0.1 0.149,0.1 0.14,0.101 0.13,0.104 0.122,0.108 0.114,0.114 0.108,0.122 0.104,0.13
Mechanical 13:
  circle w0.1: c-1.475,1.25 r0.3
  lines w0.1: -2.075,-2.075 -2.075,2.075 2.075,2.075 2.075,-2.075 -2.075,-2.075

## RHB32_3P45X3P45 [mm]
pads (33):
  rect 0.85x0.28 smd paste-0.412: 1(-2.475,1.75) 2(-2.475,1.25) 3(-2.475,0.75) 4(-2.475,0.25) 5(-2.475,-0.25) 6(-2.475,-0.75) 7(-2.475,-1.25) 8(-2.475,-1.75) 17(2.475,-1.75) 18(2.475,-1.25) 19(2.475,-0.75) 20(2.475,-0.25) 21(2.475,0.25) 22(2.475,0.75) 23(2.475,1.25) 24(2.475,1.75)
  rect 0.28x0.85 smd paste-0.412: 9(-1.75,-2.475) 10(-1.25,-2.475) 11(-0.75,-2.475) 12(-0.25,-2.475) 13(0.25,-2.475) 14(0.75,-2.475) 15(1.25,-2.475) 16(1.75,-2.475) 25(1.75,2.475) 26(1.25,2.475) 27(0.75,2.475) 28(0.25,2.475) 29(-0.25,2.475) 30(-0.75,2.475) 31(-1.25,2.475) 32(-1.75,2.475)
  rect 3.45x3.45 smd paste-1.712 mask-1.714: 33(0,0)
Top Overlay:
  lines w0.152: -2.829,-2.223 -2.829,-2.829 -2.223,-2.829 ; -2.829,2.223 -2.829,2.829 -2.223,2.829 ; 2.223,-2.829 2.829,-2.829 2.829,-2.223 ; 2.223,2.829 2.829,2.829 2.829,2.223
Top Paste:
  drawing of 57 lines, arcs and shapes, not listed
Top Solder:
  drawing of 42 lines, arcs and shapes, not listed
Mechanical 15:
  lines w0.152: -3.154,3.154 3.154,3.154
3D body "RHB32_3P45X3P45.stp": height 1.4, standoff 0, extent -2.626,-2.626 2.626,2.626